# EAGLE library part APA102-STRIP (library Botamochi-led)
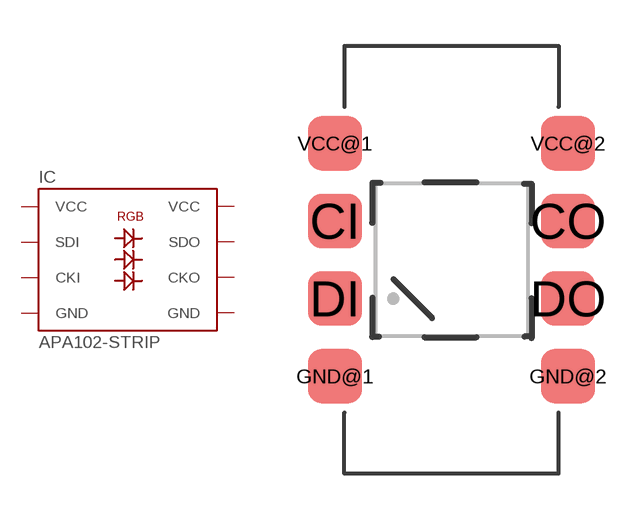
[diagram p1: symbol with the pads of APA102-STRIP-ELEMENT-144; footprint APA102-STRIP-ELEMENT-144]

Designator prefix IC

## APA102-STRIP-144  [APA102-STRIP-ELEMENT-144]
CI  CKI  in
CO  CKO  out
DI  SDI  in
DO  SDO  out
GND@1  GND  pwr
GND@2  GND  pwr
VCC@1  VCC  pwr
VCC@2  VCC  pwr

## Footprint APA102-STRIP-ELEMENT-144 (pad centres in mm)
APA102 Compatible LED Strip Element Specifications: Pin count: 6 Size: 7.0 x 14.0 mm Reference: aliexpress <https://h5.ja.aliexpress.com/item/4000236222476.html>
smd 1.778 x 1.778: CI -3.81,1.27; CO 3.81,1.27; DI -3.81,-1.27; DO 3.81,-1.27; GND@1 -3.81,-3.81; GND@2 3.81,-3.81; VCC@1 -3.81,3.81; VCC@2 3.81,3.81